# EAGLE library part CN3306 (library CN3306)
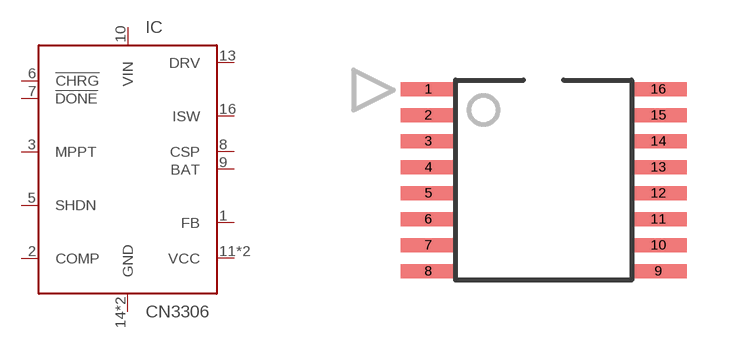
[diagram p0: symbol with the pads of TSSOP-16; footprint TSSOP-16]

Designator prefix IC

## CN3306 (MARK: CN3306; MF: Consonance; MPN: CN3306)  [TSSOP-16]
1  FB  in
2  COMP
3  MPPT  in
5  SHDN  in
6  !CHRG  oc
7  !DONE  oc
8  CSP  in
9  BAT  in
10  VIN  pwr
11  VCC
12  VCC
13  DRV  out
14  GND  pwr
15  GND  pwr
16  ISW  in

## Footprint TSSOP-16 (pad centres in mm)
smd 1.4 x 0.35: 1 -2.875,2.275; 2 -2.875,1.625; 3 -2.875,0.975; 4 -2.875,0.325; 5 -2.875,-0.325; 6 -2.875,-0.975; 7 -2.875,-1.625; 8 -2.875,-2.275; 9 2.875,-2.275; 10 2.875,-1.625; 11 2.875,-0.975; 12 2.875,-0.325; 13 2.875,0.325; 14 2.875,0.975; 15 2.875,1.625; 16 2.875,2.275